# EAGLE library part IRS21952SPBF (library International_Rectifier_By_element14_Batch_1)
HIGH SIDE & DUAL LOW SIDE DRIVER IC
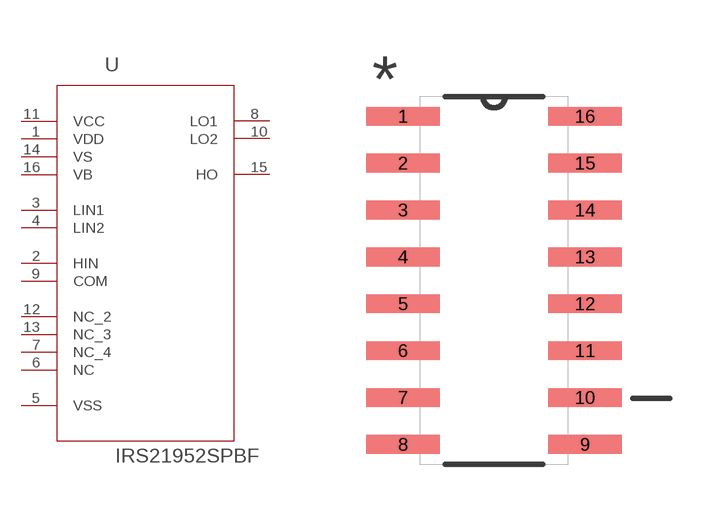
[diagram p100: symbol with the pads of SOIC127P600X175-16N; footprint SOIC127P600X175-16N]

Designator prefix U

## IRS21952SPBF (MPN: IRS21952SPBF; OC_FARNELL: 1925166; OC_NEWARK: 47P5816; PACKAGE: SOIC-16; SUPPLIER: INTERNATIONAL RECTIFIER)  [SOIC127P600X175-16N]
1  VDD  pwr
2  HIN  in
3  LIN1  in
4  LIN2  in
5  VSS  pas
6  NC  nc
7  NC_4  nc
8  LO1  out
9  COM  pwr
10  LO2  out
11  VCC  pwr
12  NC_2  nc
13  NC_3  nc
14  VS  pwr
15  HO  out
16  VB  pwr

## Footprint SOIC127P600X175-16N (pad centres in mm)
smd 1.981 x 0.508: 1 -2.464,4.445; 2 -2.464,3.175; 3 -2.464,1.905; 4 -2.464,0.635; 5 -2.464,-0.635; 6 -2.464,-1.905; 7 -2.464,-3.175; 8 -2.464,-4.445; 9 2.464,-4.445; 10 2.464,-3.175; 11 2.464,-1.905; 12 2.464,-0.635; 13 2.464,0.635; 14 2.464,1.905; 15 2.464,3.175; 16 2.464,4.445